# Altium footprint library ESP32-S3.PcbLib: 3 footprints
Each footprint in its own frame and in the unit in brackets; x right, y up, seen from the top. Pads: shape width x height; smd on the part's side, far side on the other; paste and mask are expansions set on the pad; w line width, h text height; cw(c..) or ccw(c..) is an arc to the next point about the centre after c.
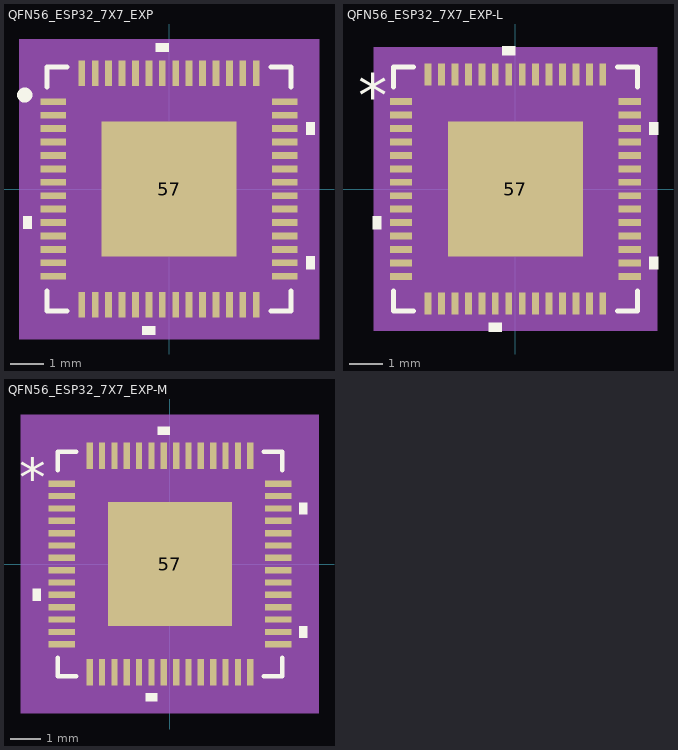
[diagram p0: the footprints below, top view; thin cyan lines are the x and y axes]

## QFN56_ESP32_7X7_EXP [mil]
pads (57):
  rect 30x8 smd paste+0 mask+0: 1(-136,102.36) 2(-136,86.61) 3(-136,70.87) 4(-136,55.12) 5(-136,39.37) 6(-136,23.62) 7(-136,7.87) 8(-136,-7.87) 9(-136,-23.62) 10(-136,-39.37) 11(-136,-55.12) 12(-136,-70.87) 13(-136,-86.61) 14(-136,-102.36) 29(136,-102.36) 30(136,-86.61) 31(136,-70.87) 32(136,-55.12) 33(136,-39.37) 34(136,-23.62) 35(136,-7.87) 36(136,7.87) 37(136,23.62) 38(136,39.37) 39(136,55.12) 40(136,70.87) 41(136,86.61) 42(136,102.36)
  rect 8x30 smd paste+0 mask+0: 15(-102.36,-136) 16(-86.61,-136) 17(-70.87,-136) 18(-55.12,-136) 19(-39.37,-136) 20(-23.62,-136) 21(-7.87,-136) 22(7.87,-136) 23(23.62,-136) 24(39.37,-136) 25(55.12,-136) 26(70.87,-136) 27(86.61,-136) 28(102.36,-136) 43(102.36,136) 44(86.61,136) 45(70.87,136) 46(55.12,136) 47(39.37,136) 48(23.62,136) 49(7.87,136) 50(-7.87,136) 51(-23.62,136) 52(-39.37,136) 53(-55.12,136) 54(-70.87,136) 55(-86.61,136) 56(-102.36,136)
  rect 158x158 smd paste-78.5 mask+0: 57(0,0)
Top Overlay:
  circle w10: c-169.29,110.24 r3.94
  region: -0.37,161 -15.37,161 -15.37,171 -0.37,171
  region: 161,78.37 171,78.37 171,63.37 161,63.37
  region: 161,-79.11 171,-79.11 171,-94.11 161,-94.11
  region: -16.12,-161 -31.12,-161 -31.12,-171 -16.12,-171
  region: -161,-31.87 -171,-31.87 -171,-46.87 -161,-46.87
  lines w6: -143,-119.46 -143,-143 -119.46,-143 ; -143,119.46 -143,143 -119.46,143 ; 119.46,-143 143,-143 143,-119.46 ; 119.46,143 143,143 143,119.46
Top Paste:
  region: 75.06,-30.27 30.27,-30.27 30.27,-75.06 75.06,-75.06
  region: 75.06,22.4 30.27,22.4 30.27,-22.4 75.06,-22.4
  region: 75.06,75.06 30.27,75.06 30.27,30.27 75.06,30.27
  region: 22.4,-30.27 -22.4,-30.27 -22.4,-75.06 22.4,-75.06
  region: 22.4,22.4 -22.4,22.4 -22.4,-22.4 22.4,-22.4
  region: 22.4,75.06 -22.4,75.06 -22.4,30.27 22.4,30.27
  region: -30.27,-30.27 -75.06,-30.27 -75.06,-75.06 -30.27,-75.06
  region: -30.27,22.4 -75.06,22.4 -75.06,-22.4 -30.27,-22.4
  region: -30.27,75.06 -75.06,75.06 -75.06,30.27 -30.27,30.27
Mechanical 5:
  region: 176,-176 -176,-176 -176,176 176,176
Mechanical 13:
  drawing of 229 lines, arcs and shapes, not listed
  text "*" at -133.5,85.24 h50
Mechanical 15:
  region: -116.36,-148 -148,-148 -148,-116.36 -161,-116.36 -161,116.36 -148,116.36 -148,148 -116.36,148 -116.36,161 116.36,161 116.36,148 148,148 148,116.36 161,116.36 161,-116.36 148,-116.36 148,-148 116.36,-148 116.36,-161 -116.36,-161
  lines w6: -161,-116.36 -161,116.36 -148,116.36 -148,148 -116.36,148 -116.36,161 116.36,161 116.36,148 148,148 148,116.36 161,116.36 161,-116.36 148,-116.36 148,-148 116.36,-148 116.36,-161 -116.36,-161 -116.36,-148 -148,-148 -148,-116.36 -161,-116.36
3D body "QFN56_ESP32_7X7_EXP.step": height 35.12, standoff 0, extent -139.02,-139.02 139.02,139.02

## QFN56_ESP32_7X7_EXP-L [mil]
pads (57):
  rect 26x8 smd paste+0 mask+0: 1(-134,102.36) 2(-134,86.61) 3(-134,70.87) 4(-134,55.12) 5(-134,39.37) 6(-134,23.62) 7(-134,7.87) 8(-134,-7.87) 9(-134,-23.62) 10(-134,-39.37) 11(-134,-55.12) 12(-134,-70.87) 13(-134,-86.61) 14(-134,-102.36) 29(134,-102.36) 30(134,-86.61) 31(134,-70.87) 32(134,-55.12) 33(134,-39.37) 34(134,-23.62) 35(134,-7.87) 36(134,7.87) 37(134,23.62) 38(134,39.37) 39(134,55.12) 40(134,70.87) 41(134,86.61) 42(134,102.36)
  rect 8x26 smd paste+0 mask+0: 15(-102.36,-134) 16(-86.61,-134) 17(-70.87,-134) 18(-55.12,-134) 19(-39.37,-134) 20(-23.62,-134) 21(-7.87,-134) 22(7.87,-134) 23(23.62,-134) 24(39.37,-134) 25(55.12,-134) 26(70.87,-134) 27(86.61,-134) 28(102.36,-134) 43(102.36,134) 44(86.61,134) 45(70.87,134) 46(55.12,134) 47(39.37,134) 48(23.62,134) 49(7.87,134) 50(-7.87,134) 51(-23.62,134) 52(-39.37,134) 53(-55.12,134) 54(-70.87,134) 55(-86.61,134) 56(-102.36,134)
  rect 158x158 smd paste-78.5 mask+0: 57(0,0)
Top Overlay:
  region: -157,-31.87 -167,-31.87 -167,-46.87 -157,-46.87
  region: -16.12,-157 -31.12,-157 -31.12,-167 -16.12,-167
  region: 157,-79.11 167,-79.11 167,-94.11 157,-94.11
  region: 157,78.37 167,78.37 167,63.37 157,63.37
  region: -0.37,157 -15.37,157 -15.37,167 -0.37,167
  lines w6: -143,-119.46 -143,-143 -119.46,-143 ; -143,119.46 -143,143 -119.46,143 ; 119.46,-143 143,-143 143,-119.46 ; 119.46,143 143,143 143,119.46
  text "*" at -184.5,85.24 h50
Top Paste:
  region: -30.27,75.06 -75.06,75.06 -75.06,30.27 -30.27,30.27
  region: -30.27,22.4 -75.06,22.4 -75.06,-22.4 -30.27,-22.4
  region: -30.27,-30.27 -75.06,-30.27 -75.06,-75.06 -30.27,-75.06
  region: 22.4,75.06 -22.4,75.06 -22.4,30.27 22.4,30.27
  region: 22.4,22.4 -22.4,22.4 -22.4,-22.4 22.4,-22.4
  region: 22.4,-30.27 -22.4,-30.27 -22.4,-75.06 22.4,-75.06
  region: 75.06,75.06 30.27,75.06 30.27,30.27 75.06,30.27
  region: 75.06,22.4 30.27,22.4 30.27,-22.4 75.06,-22.4
  region: 75.06,-30.27 30.27,-30.27 30.27,-75.06 75.06,-75.06
Mechanical 5:
  region: 166,-166 -166,-166 -166,166 166,166
Mechanical 13:
  drawing of 229 lines, arcs and shapes, not listed
  text "*" at -133.5,85.24 h50
Mechanical 15:
  region: -110.36,-142 -142,-142 -142,-110.36 -151,-110.36 -151,110.36 -142,110.36 -142,142 -110.36,142 -110.36,151 110.36,151 110.36,142 142,142 142,110.36 151,110.36 151,-110.36 142,-110.36 142,-142 110.36,-142 110.36,-151 -110.36,-151
  lines w6: -151,-110.36 -142,-110.36 -142,-142 -110.36,-142 -110.36,-151 110.36,-151 110.36,-142 142,-142 142,-110.36 151,-110.36 151,110.36 142,110.36 142,142 110.36,142 110.36,151 -110.36,151 -110.36,142 -142,142 -142,110.36 -151,110.36 -151,-110.36
3D body "QFN56_ESP32_7X7_EXP.step": height 35.12, standoff 0, extent -139.02,-139.02 139.02,139.02

## QFN56_ESP32_7X7_EXP-M [mil]
pads (57):
  rect 34x8 smd paste+0 mask+0: 1(-138,102.36) 2(-138,86.61) 3(-138,70.87) 4(-138,55.12) 5(-138,39.37) 6(-138,23.62) 7(-138,7.87) 8(-138,-7.87) 9(-138,-23.62) 10(-138,-39.37) 11(-138,-55.12) 12(-138,-70.87) 13(-138,-86.61) 14(-138,-102.36) 29(138,-102.36) 30(138,-86.61) 31(138,-70.87) 32(138,-55.12) 33(138,-39.37) 34(138,-23.62) 35(138,-7.87) 36(138,7.87) 37(138,23.62) 38(138,39.37) 39(138,55.12) 40(138,70.87) 41(138,86.61) 42(138,102.36)
  rect 8x34 smd paste+0 mask+0: 15(-102.36,-138) 16(-86.61,-138) 17(-70.87,-138) 18(-55.12,-138) 19(-39.37,-138) 20(-23.62,-138) 21(-7.87,-138) 22(7.87,-138) 23(23.62,-138) 24(39.37,-138) 25(55.12,-138) 26(70.87,-138) 27(86.61,-138) 28(102.36,-138) 43(102.36,138) 44(86.61,138) 45(70.87,138) 46(55.12,138) 47(39.37,138) 48(23.62,138) 49(7.87,138) 50(-7.87,138) 51(-23.62,138) 52(-39.37,138) 53(-55.12,138) 54(-70.87,138) 55(-86.61,138) 56(-102.36,138)
  rect 158x158 smd paste-78.5 mask+0: 57(0,0)
Top Overlay:
  region: -165,-31.87 -175,-31.87 -175,-46.87 -165,-46.87
  region: -16.12,-165 -31.12,-165 -31.12,-175 -16.12,-175
  region: 165,-79.11 175,-79.11 175,-94.11 165,-94.11
  region: 165,78.37 175,78.37 175,63.37 165,63.37
  region: -0.37,165 -15.37,165 -15.37,175 -0.37,175
  lines w6: -143,-119.46 -143,-143 -119.46,-143 ; -143,119.46 -143,143 -119.46,143 ; 119.46,-143 143,-143 143,-119.46 ; 119.46,143 143,143 143,119.46
  text "*" at -192.5,85.24 h50
Top Paste:
  region: -30.27,75.06 -75.06,75.06 -75.06,30.27 -30.27,30.27
  region: -30.27,22.4 -75.06,22.4 -75.06,-22.4 -30.27,-22.4
  region: -30.27,-30.27 -75.06,-30.27 -75.06,-75.06 -30.27,-75.06
  region: 22.4,75.06 -22.4,75.06 -22.4,30.27 22.4,30.27
  region: 22.4,22.4 -22.4,22.4 -22.4,-22.4 22.4,-22.4
  region: 22.4,-30.27 -22.4,-30.27 -22.4,-75.06 22.4,-75.06
  region: 75.06,75.06 30.27,75.06 30.27,30.27 75.06,30.27
  region: 75.06,22.4 30.27,22.4 30.27,-22.4 75.06,-22.4
  region: 75.06,-30.27 30.27,-30.27 30.27,-75.06 75.06,-75.06
Mechanical 5:
  region: 190,-190 -190,-190 -190,190 190,190
Mechanical 13:
  drawing of 229 lines, arcs and shapes, not listed
  text "*" at -133.5,85.24 h50
Mechanical 15:
  region: -126.36,-158 -158,-158 -158,-126.36 -175,-126.36 -175,126.36 -158,126.36 -158,158 -126.36,158 -126.36,175 126.36,175 126.36,158 158,158 158,126.36 175,126.36 175,-126.36 158,-126.36 158,-158 126.36,-158 126.36,-175 -126.36,-175
  lines w6: -175,-126.36 -158,-126.36 -158,-158 -126.36,-158 -126.36,-175 126.36,-175 126.36,-158 158,-158 158,-126.36 175,-126.36 175,126.36 158,126.36 158,158 126.36,158 126.36,175 -126.36,175 -126.36,158 -158,158 -158,126.36 -175,126.36 -175,-126.36
3D body "QFN56_ESP32_7X7_EXP.step": height 35.12, standoff 0, extent -139.02,-139.02 139.02,139.02